# Altium schematic symbol library SPB_Tantalum_Capacitors.SchLib: 3 symbols
Pins are listed as number, name and electrical type; pins without a type are passive.

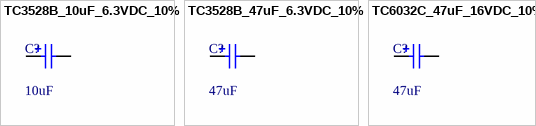
[diagram p0: symbols TC3528B_10uF_6.3VDC_10% to TC6032C_47uF_16VDC_10%]

## TC3528B_10uF_6.3VDC_10%
designator C?, comment 10uF
Capacitor; Manufacturer Part Number: 293D106X96R3B2TE3; Value: 10uF; Mouser Part #: 74-293D106X96R3B2TE3; Digi-Key Part Number: 718-1127-1-ND
footprint SMD B (3528)
pins: 1 2, 2 1

## TC3528B_47uF_6.3VDC_10%
designator C?, comment 47uF
47µF Molded Tantalum Capacitors 6.3V 1411 (3528 Metric) 1.9 Ohm; Manufacturer Part Number: 293D476X96R3B2TE3; Value: 47uF; Mouser Part #: 74-293D476X96R3B2TE3; Digi-Key Part Number: 718-1154-1-ND
footprint SMD B (3528)
pins: 1 2, 2 1

## TC6032C_47uF_16VDC_10%
designator C?, comment 47uF
47µF Molded Tantalum Capacitors 16V 2312 (6032 Metric) 1 Ohm; Manufacturer Part Number: 293D476X9016C2TE3; Value: 47uF; Mouser Part #: 74-293D476X9016C2TE3; Digi-Key Part Number: 718-1089-1-ND
footprint SMD C (6032)
pins: 1 2, 2 1